# Altium schematic symbol library 开关.SchLib: 2 symbols
Pins are listed as number, name and electrical type; pins without a type are passive.

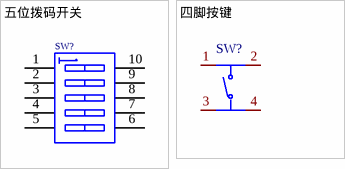
[diagram p0: symbols 五位拨码开关 to 四脚按键]

## 五位拨码开关
designator SW?
pins: 1 A1, 2 A2, 3 A3, 4 A4, 5 A5, 6 B5, 7 B4, 8 B3, 9 B2, 10 B1

## 四脚按键
designator SW?
pins: 1, 2, 3, 4